# EAGLE library part SSW-103-02-S-D (library TimePassThrough)
THROUGH-HOLE .025" SQ POST SOCKET Source: Samtec SSW.pdf
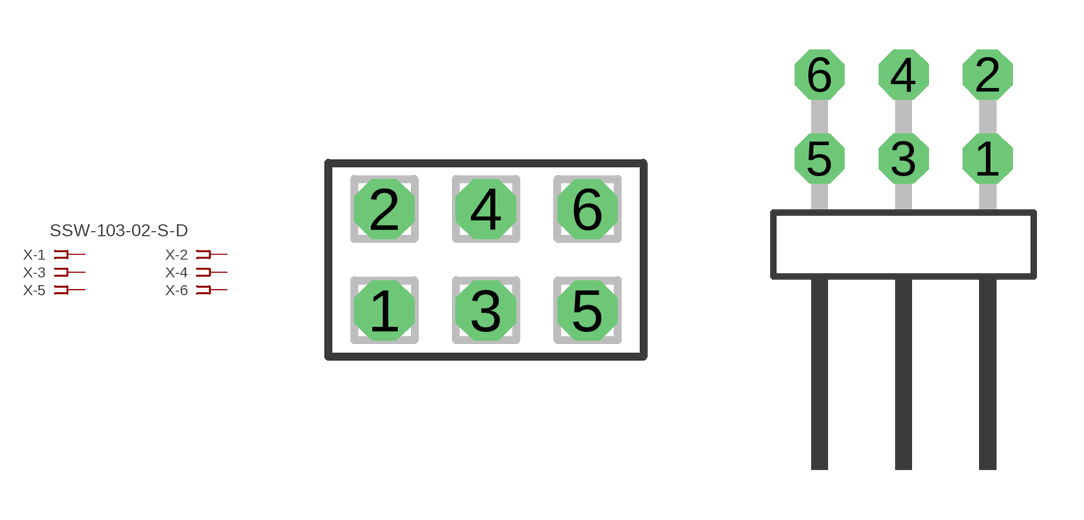
[diagram p3: symbol with the pads of SSW-103-02-S-D; footprints SSW-103-02-S-D, TSW-103-02-S-D-RA]

Designator prefix X; gates -1=FPINV -2=FPIN -3=FPIN -4=FPIN -5=FPIN -6=FPIN

## SSW-103-02-S-D (MPN: SSW-103-02-S-D; OC_FARNELL: unknown; OC_NEWARK: 11P9365)  [SSW-103-02-S-D]
1  -1:1  pas
2  -2:1  pas
3  -3:1  pas
4  -4:1  pas
5  -5:1  pas
6  -6:1  pas

## SSW-103-02-S-D-RA (MPN: SSW-103-02-S-D-RA; OC_FARNELL: unknown; OC_NEWARK: 11P9366)  [TSW-103-02-S-D-RA]
Pads as for SSW-103-02-S-D

## Footprint SSW-103-02-S-D (pad centres in mm)
THROUGH-HOLE .025" SQ POST SOCKET Source: Samtec SSW.pdf
drill 1 pad 1.5 octagon: 1 -2.54,-1.27; 2 -2.54,1.27; 3 0,-1.27; 4 0,1.27; 5 2.54,-1.27; 6 2.54,1.27

## Footprint TSW-103-02-S-D-RA (pad centres in mm)
THROUGH-HOLE .025" SQ POST HEADER Source: Samtec TSW.pdf
drill 1 pad 1.5 octagon: 1 2.54,1.524; 2 2.54,4.064; 3 0,1.524; 4 0,4.064; 5 -2.54,1.524; 6 -2.54,4.064